# Altium schematic symbol library DDS_PCB.SCHLIB: 53 symbols
Pins are listed as number, name and electrical type; pins without a type are passive.

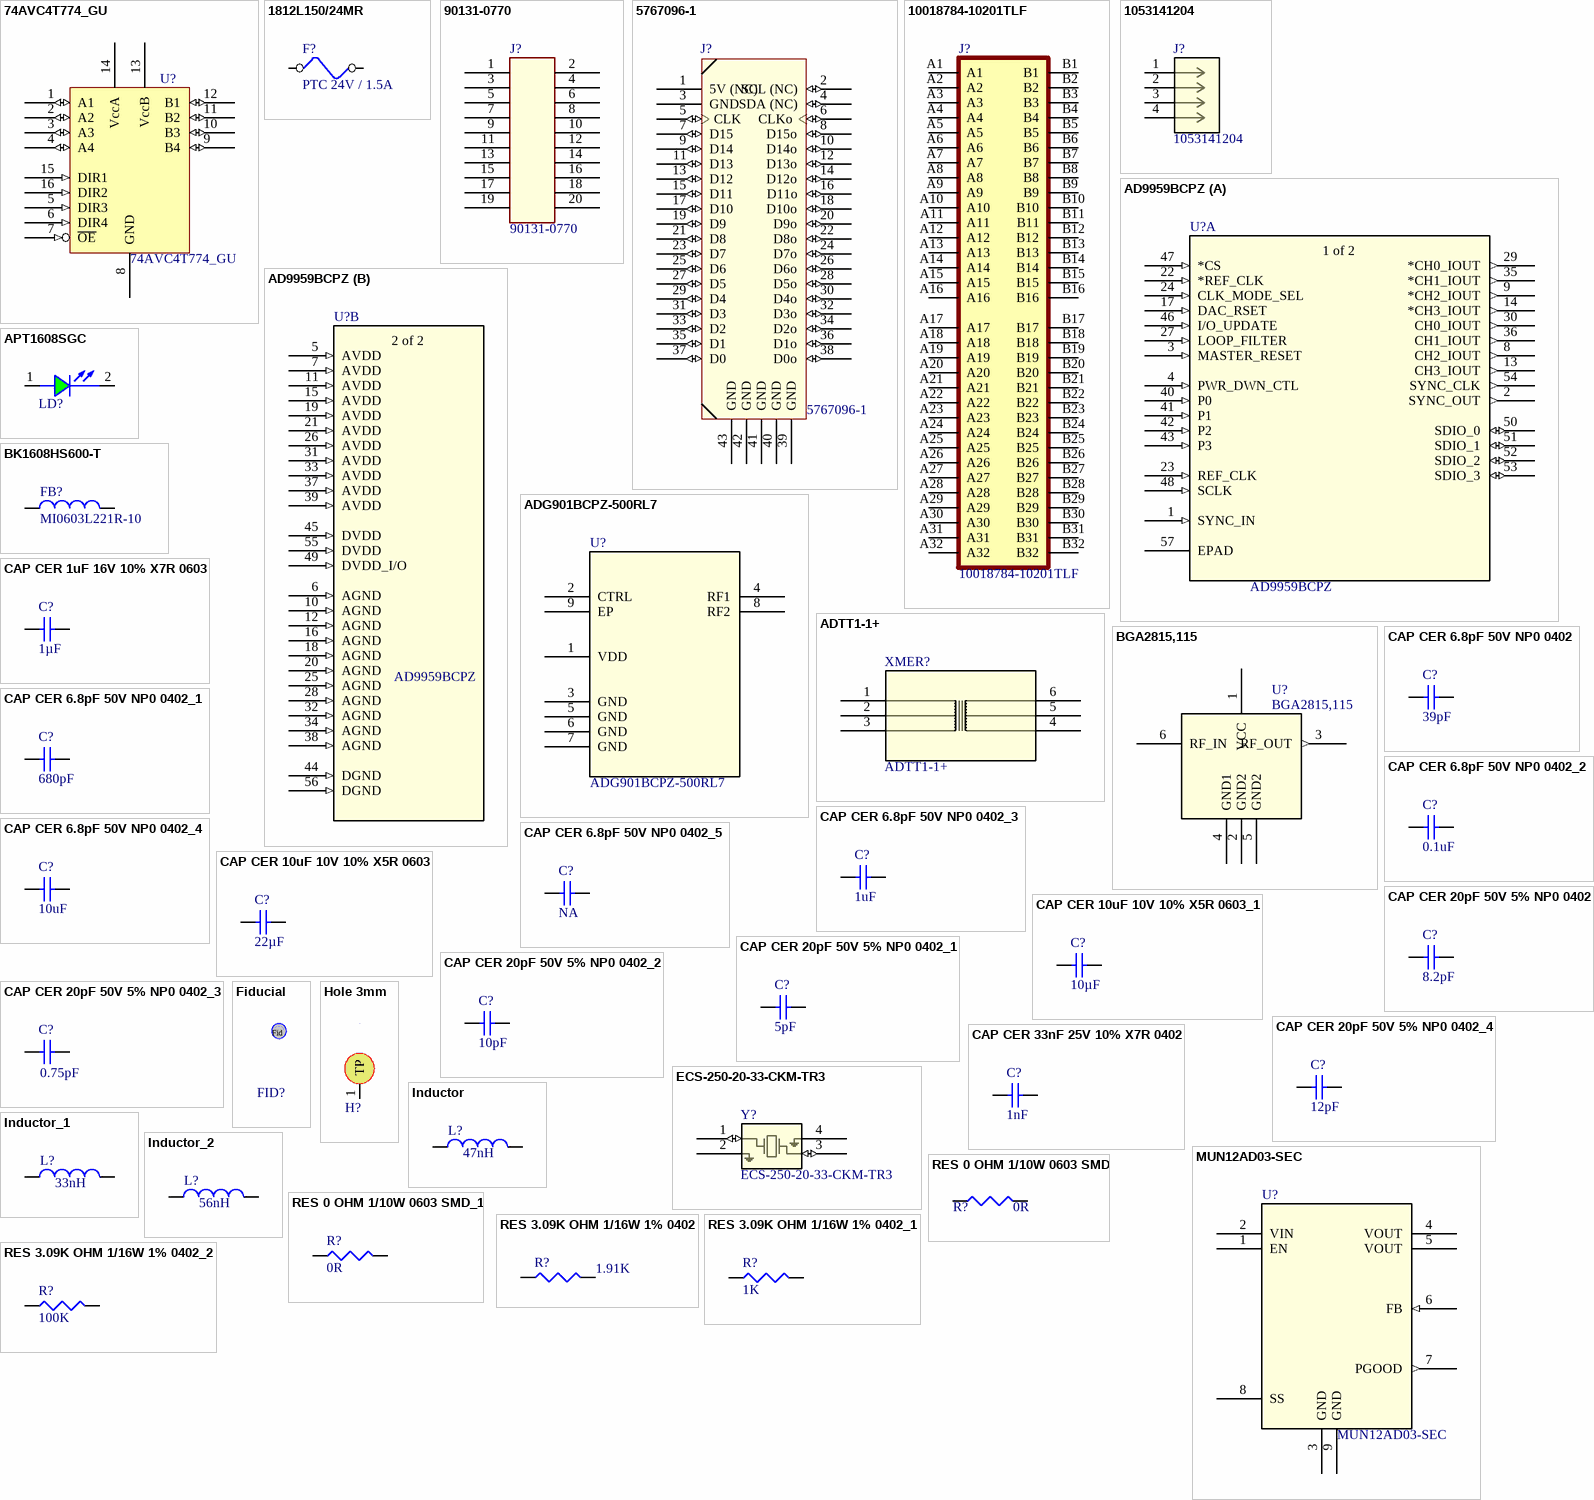
[diagram p0: symbols 74AVC4T774_GU to RES 3.09K OHM 1/16W 1% 0402_2]

## 74AVC4T774_GU
designator U?
footprint NXP_74AVC4T245GU,115
pins: 1 A1 (io), 2 A2 (io), 3 A3 (io), 4 A4 (io), 5 DIR3 (in), 6 DIR4 (in), 7 ~{OE} (in), 8 GND (power), 9 B4 (io), 10 B3 (io), 11 B2 (io), 12 B1 (io), 13 VccB (power), 14 VccA (power), 15 DIR1 (in), 16 DIR2 (in)

## 1812L150/24MR
designator F?, comment PTC 24V / 1.5A
FUSE PTC 24V 1.5A POLYFUSE 1812; Manufacturer: Littelfuse Inc; Manufacturer Part Number: 1812L150/24MR; LANDA P/N: EFS-000011; Package / Case: 1812 (4532 Metric), Concave; RoHS: RoHS Compliant; ComponentLink1URL: http://www.littelfuse.com/data/en/Data_Sheets/Littelfuse_PTC_1812L.pdf; ComponentLink1Description: http://www.littelfuse.com/data/en/Data_Sheets/Littelfuse_PTC_1812L.pdf; Current - Hold (Ih) (Max): 1.5A
footprint 1812_F (PTC RESETTABLE 33V 1.10A 1812L)
pins: 1, 2

## 90131-0770
designator J?
CONN HEADER 20 TH; Manufacturer: Molex Connector Corporation; LANDA P/N: ECN-000005; RoHS: RoHS Compliant; Mounting Type: Through Hole; Contact Type: Male Pin; ComponentLink1URL: http://www.molex.com/pdm_docs/sd/901310770_sd.pdf; ComponentLink1Description: http://www.molex.com/pdm_docs/sd/901310770_sd.pdf; Manufacturer Part Number: 90131-0770
footprint HEADER_10x2
pins: 1, 2, 3, 4, 5, 6, 7, 8, 9, 10, 11, 12, 13, 14, 15, 16, 17, 18, 19, 20

## 5767096-1
designator J?
CONN MICTOR 38POS .025 VERT SMD; Manufacturer: TE Connectivity; LANDA P/N: ECN-000060; RoHS: RoHS Compliant; ComponentLink1URL: http://www.te.com/commerce/DocumentDelivery/DDEController?Action=srchrtrv&DocNm=5767096&DocType=Customer+Drawing&DocLang=English; ComponentLink1Description: http://www.te.com/commerce/DocumentDelivery/DDEController?Action=srchrtrv&DocNm=5767096&DocType=Customer+Drawing&DocLang=English; Manufacturer Part Number: 5767096-1
footprint MICTOR-38_PIN
pins: 1 5V (NC) (power), 2 SCL (NC) (io), 3 GND (power), 4 SDA (NC) (io), 5 CLK (io), 6 CLKo (io), 7 D15 (io), 8 D15o (io), 9 D14 (io), 10 D14o (io), 11 D13 (io), 12 D13o (io), 13 D12 (io), 14 D12o (io), 15 D11 (io), 16 D11o (io), 17 D10 (io), 18 D10o (io), 19 D9 (io), 20 D9o (io), 21 D8 (io), 22 D8o (io), 23 D7 (io), 24 D7o (io), 25 D6 (io), 26 D6o (io), 27 D5 (io), 28 D5o (io), 29 D4 (io), 30 D4o (io), 31 D3 (io), 32 D3o (io), 33 D2 (io), 34 D2o (io), 35 D1 (io), 36 D1o (io), 37 D0 (io), 38 D0o (io), 39 GND (power), 40 GND (power), 41 GND (power), 42 GND (power), 43 GND (power)

## 10018784-10201TLF
designator J?
64 Position Female Connector PCI Expressâ„¢ Gold 0.039 _1.00mm_ Black; MF: Amphenol ICC; Price: None; Value: *; MP: 10018784-10201TLF; Package: None; SnapEDA_Link: https://www.snapeda.com/parts/10018784-10201TLF/Amphenol%20FCI/view-part/2598016/?ref=snap; Availability: Unavailable
footprint CONN_10018784-10201TLF
pins: A1, A2, A3, A4, A5, A6, A7, A8, A9, A10, A11, A12, A13, A14, A15, A16, A17, A18, A19, A20, A21, A22, A23, A24, A25, A26, A27, A28, A29, A30, A31, A32, B1, B2, B3, B4, B5, B6, B7, B8, B9, B10, B11, B12, B13, B14, B15, B16, B17, B18, B19, B20, B21, B22, B23, B24, B25, B26, B27, B28, B29, B30, B31, B32

## 1053141204
designator J?
No Description Available; Mfr_Name: Molex Connector Corporation; Copyright: Copyright (C) 2023 Ultra Librarian. All rights reserved.; Manufacturer_Part_Number: 1053141204; RefDes: RefDes; Type: DEV
footprint CON_1053141204
pins: 1, 2, 3, 4

## AD9959BCPZ
designator U?
No Description Available; Mfr_Name: Analog Devices Inc; Copyright: Copyright (C) 2023 Ultra Librarian. All rights reserved.; Manufacturer_Part_Number: AD9959BCPZ; RefDes: RefDes; Type: DEV
footprint CP_56_1_ADI
part A pins: 1 SYNC_IN (in), 2 SYNC_OUT (out), 3 MASTER_RESET (in), 4 PWR_DWN_CTL (in), 8 CH2_IOUT (out), 9 *CH2_IOUT (out), 13 CH3_IOUT (out), 14 *CH3_IOUT (out), 17 DAC_RSET (in), 22 *REF_CLK (in), 23 REF_CLK (in), 24 CLK_MODE_SEL (in), 27 LOOP_FILTER (in), 29 *CH0_IOUT (out), 30 CH0_IOUT (out), 35 *CH1_IOUT (out), 36 CH1_IOUT (out), 40 P0 (in), 41 P1 (in), 42 P2 (in), 43 P3 (in), 46 I/O_UPDATE (in), 47 *CS (in), 48 SCLK (in), 50 SDIO_0 (io), 51 SDIO_1 (io), 52 SDIO_2 (io), 53 SDIO_3 (io), 54 SYNC_CLK (out), 57 EPAD
part B pins: 5 AVDD (in), 6 AGND (in), 7 AVDD (in), 10 AGND (in), 11 AVDD (in), 12 AGND (in), 15 AVDD (in), 16 AGND (in), 18 AGND (in), 19 AVDD (in), 20 AGND (in), 21 AVDD (in), 25 AGND (in), 26 AVDD (in), 28 AGND (in), 31 AVDD (in), 32 AGND (in), 33 AVDD (in), 34 AGND (in), 37 AVDD (in), 38 AGND (in), 39 AVDD (in), 44 DGND (in), 45 DVDD (in), 49 DVDD_I/O (in), 55 DVDD (in), 56 DGND (in)
part A text: 1 of 2
part B text: 2 of 2

## ADG901BCPZ-500RL7
designator U?
No Description Available; Mfr_Name: Analog Devices Inc; Copyright: Copyright (C) 2023 Ultra Librarian. All rights reserved.; Manufacturer_Part_Number: ADG901BCPZ-500RL7; RefDes: RefDes; Type: DEV
footprint CP_8_2_ADI
pins: 1 VDD (power), 2 CTRL, 3 GND, 4 RF1, 5 GND, 6 GND, 7 GND, 8 RF2, 9 EP

## ADTT1-1+
designator XMER?
No Description Available; Mfr_Name: Mini Circuits; Copyright: Copyright (C) 2023 Ultra Librarian. All rights reserved.; Manufacturer_Part_Number: ADTT1-1+; RefDes: RefDes; Type: DEV
footprint CD542_MNC
pins: 1, 2, 3, 4, 5, 6

## APT1608SGC
designator LD?  (value not drawn)
LED 1.6X0.8MM 568NM GRN CLR SMD; Manufacturer: Kingbright Corp; LANDA P/N: EDI-000006; RoHS: RoHS Compliant; Package / Case: 0603 (1608 Metric); ComponentLink1URL: http://www.us.kingbright.com/images/catalog/SPEC/APT1608SGC.pdf; ComponentLink1Description: http://www.us.kingbright.com/images/catalog/SPEC/APT1608SGC.pdf; Manufacturer Part Number: APT1608SGC
footprint LED_0603_Green (LED 0603, Green)
pins: 1 ANODE, 2 CATHODE

## BGA2815,115
designator U?
No Description Available; Mfr_Name: NXP; Copyright: Copyright (C) 2023 Ultra Librarian. All rights reserved.; Manufacturer_Part_Number: BGA2815,115; RefDes: RefDes; Type: DEV
footprint SOT_2815,115_NXP
pins: 1 VCC (power), 2 GND2, 3 RF_OUT (out), 4 GND1, 5 GND2, 6 RF_IN

## BK1608HS600-T
designator FB?  Manufacturer Part Number: MI0603L221R-10  (hidden comment: BK1608HS600-T)
FERRITE BEAD 220_OHM@100MHz 0603 2A 50mohm_DC; Manufacturer: Taiyo Yuden; LANDA P/N: EIN-000010; RoHS: RoHS Compliant; Package / Case: 0603 (1608 Metric); ComponentLink1URL: http://www.yuden.co.jp/ut/product/category/emisuppression/BK1608HS600-T.pdf; ComponentLink1Description: http://www.yuden.co.jp/ut/product/category/emisuppression/BK1608HS600-T.pdf
footprint FB0603
footprint fb0603
pins: 1, 2

## CAP CER 1uF 16V 10% X7R 0603
designator C?, comment Capacitance: 1µF  (hidden comment: 1uF 16V)
CAP CER 1UF 16V 10% X7R 0603; Manufacturer: TDK Corporation; Manufacturer Part Number: C1608X7R1C105K; LANDA P/N: ECP-000011; RoHS: RoHS Compliant; ComponentLink1URL: http://www.tdk.com/pdf/general_B11.pdf; ComponentLink1Description: http://www.tdk.com/pdf/general_B11.pdf; Package / Case: 0603 (1608 Metric); Voltage - Rated: 16V
footprint C0603
pins: 1, 2

## CAP CER 6.8pF 50V NP0 0402
designator C?, comment Capacitance: 39pF  (hidden comment: 39pF 50V)
CAP CER 39PF 50V NP0 0402; Manufacturer Part Number: C1005C0G1H6R8D; Manufacturer: TDK Corporation; LANDA P/N: ECP-000033; RoHS: RoHS Compliant; Package / Case: 0402 (1005 Metric); ComponentLink1URL: http://www.tdk.com/pdf/general_B11.pdf; ComponentLink1Description: http://www.tdk.com/pdf/general_B11.pdf; Voltage - Rated: 50V
footprint C0402
pins: 1, 2

## CAP CER 6.8pF 50V NP0 0402_1
designator C?, comment Capacitance: 680pF  (hidden comment: 680pF 50V)
CAP CER 680PF 50V NP0 0402; Manufacturer Part Number: C1005C0G1H6R8D; Manufacturer: TDK Corporation; LANDA P/N: ECP-000033; RoHS: RoHS Compliant; Package / Case: 0402 (1005 Metric); ComponentLink1URL: http://www.tdk.com/pdf/general_B11.pdf; ComponentLink1Description: http://www.tdk.com/pdf/general_B11.pdf; Voltage - Rated: 50V
footprint C0402
pins: 1, 2

## CAP CER 6.8pF 50V NP0 0402_2
designator C?, comment Capacitance: 0.1uF  (hidden comment: 0.1uF 50V)
CAP CER 0.1uF 50V NP0 0402; Manufacturer Part Number: C1005C0G1H6R8D; Manufacturer: TDK Corporation; LANDA P/N: ECP-000033; RoHS: RoHS Compliant; Package / Case: 0402 (1005 Metric); ComponentLink1URL: http://www.tdk.com/pdf/general_B11.pdf; ComponentLink1Description: http://www.tdk.com/pdf/general_B11.pdf; Voltage - Rated: 50V
footprint C0402
pins: 1, 2

## CAP CER 6.8pF 50V NP0 0402_3
designator C?, comment Capacitance: 1uF  (hidden comment: 1uF 25V)
CAP CER 1uF 25V X5R 0402; Manufacturer Part Number: C1005C0G1H6R8D; Manufacturer: TDK Corporation; LANDA P/N: ECP-000033; Voltage - Rated: 50V; RoHS: RoHS Compliant; Package / Case: 0402 (1005 Metric); ComponentLink1URL: http://www.tdk.com/pdf/general_B11.pdf; ComponentLink1Description: http://www.tdk.com/pdf/general_B11.pdf
footprint C0402
pins: 1, 2

## CAP CER 6.8pF 50V NP0 0402_4
designator C?, comment Capacitance: 10uF  (hidden comment: 10uF 10V)
CAP CER 10uF 10V X5R 0402; Manufacturer Part Number: C1005C0G1H6R8D; Manufacturer: TDK Corporation; LANDA P/N: ECP-000033; Voltage - Rated: 50V; RoHS: RoHS Compliant; Package / Case: 0402 (1005 Metric); ComponentLink1URL: http://www.tdk.com/pdf/general_B11.pdf; ComponentLink1Description: http://www.tdk.com/pdf/general_B11.pdf
footprint C0402
pins: 1, 2

## CAP CER 6.8pF 50V NP0 0402_5
designator C?, comment NA
CAP CER NA 50V NP0 0402; Manufacturer Part Number: C1005C0G1H6R8D; Manufacturer: TDK Corporation; LANDA P/N: ECP-000033; RoHS: RoHS Compliant; Package / Case: 0402 (1005 Metric); ComponentLink1URL: http://www.tdk.com/pdf/general_B11.pdf; ComponentLink1Description: http://www.tdk.com/pdf/general_B11.pdf; Voltage - Rated: 50V; Capacitance: NA
footprint C0402
pins: 1, 2

## CAP CER 10uF 10V 10% X5R 0603
designator C?, comment Capacitance: 22µF  (hidden comment: 22uF 16V)
CAP CER 22UF 16V 10% X5R 0603; Manufacturer Part Number: C1608X5R1A106K; Manufacturer: TDK Corporation; LANDA P/N: ECP-000008; Voltage - Rated: 10V; RoHS: RoHS Compliant; ComponentLink1URL: http://www.tdk.com/pdf/general_B11.pdf; ComponentLink1Description: http://www.tdk.com/pdf/general_B11.pdf; Package / Case: 0603 (1608 Metric)
footprint C0603
pins: 1, 2

## CAP CER 10uF 10V 10% X5R 0603_1
designator C?, comment Capacitance: 10µF  (hidden comment: 10uF 25V)
CAP CER 10UF 25V 10% X5R 0603; Manufacturer Part Number: C1608X5R1A106K; Manufacturer: TDK Corporation; LANDA P/N: ECP-000008; Voltage - Rated: 10V; RoHS: RoHS Compliant; ComponentLink1URL: http://www.tdk.com/pdf/general_B11.pdf; ComponentLink1Description: http://www.tdk.com/pdf/general_B11.pdf; Package / Case: 0603 (1608 Metric)
footprint C0603
pins: 1, 2

## CAP CER 20pF 50V 5% NP0 0402
designator C?, comment Capacitance: 8.2pF  (hidden comment: 8.2pF 50V)
CAP CER 8.2PF 50V 5% NP0 0402; Manufacturer: TDK Corporation; Manufacturer Part Number: C1005C0G1H200J; LANDA P/N: ECP-000034; Package / Case: 0402 (1005 Metric); RoHS: RoHS Compliant; ComponentLink1URL: http://www.tdk.com/pdf/general_B11.pdf; ComponentLink1Description: http://www.tdk.com/pdf/general_B11.pdf; Voltage - Rated: 50V
footprint C0402
pins: 1, 2

## CAP CER 20pF 50V 5% NP0 0402_1
designator C?, comment Capacitance: 5pF  (hidden comment: 5pF 50V)
CAP CER 5PF 50V 5% NP0 0402; Manufacturer: TDK Corporation; Manufacturer Part Number: C1005C0G1H200J; LANDA P/N: ECP-000034; Package / Case: 0402 (1005 Metric); RoHS: RoHS Compliant; ComponentLink1URL: http://www.tdk.com/pdf/general_B11.pdf; ComponentLink1Description: http://www.tdk.com/pdf/general_B11.pdf; Voltage - Rated: 50V
footprint C0402
pins: 1, 2

## CAP CER 20pF 50V 5% NP0 0402_2
designator C?, comment Capacitance: 10pF  (hidden comment: 10pF 50V)
CAP CER 10PF 50V 5% NP0 0402; Manufacturer: TDK Corporation; Manufacturer Part Number: C1005C0G1H200J; LANDA P/N: ECP-000034; Package / Case: 0402 (1005 Metric); RoHS: RoHS Compliant; ComponentLink1URL: http://www.tdk.com/pdf/general_B11.pdf; ComponentLink1Description: http://www.tdk.com/pdf/general_B11.pdf; Voltage - Rated: 50V
footprint C0402
pins: 1, 2

## CAP CER 20pF 50V 5% NP0 0402_3
designator C?, comment Capacitance: 0.75pF  (hidden comment: 0.75pF 50V)
CAP CER 0.75PF 50V 5% NP0 0402; Manufacturer: TDK Corporation; Manufacturer Part Number: C1005C0G1H200J; LANDA P/N: ECP-000034; Package / Case: 0402 (1005 Metric); RoHS: RoHS Compliant; ComponentLink1URL: http://www.tdk.com/pdf/general_B11.pdf; ComponentLink1Description: http://www.tdk.com/pdf/general_B11.pdf; Voltage - Rated: 50V
footprint C0402
pins: 1, 2

## CAP CER 20pF 50V 5% NP0 0402_4
designator C?, comment Capacitance: 12pF  (hidden comment: 12pF 50V)
CAP CER 12PF 50V 5% NP0 0402; Manufacturer: TDK Corporation; Manufacturer Part Number: C1005C0G1H200J; LANDA P/N: ECP-000034; Package / Case: 0402 (1005 Metric); RoHS: RoHS Compliant; ComponentLink1URL: http://www.tdk.com/pdf/general_B11.pdf; ComponentLink1Description: http://www.tdk.com/pdf/general_B11.pdf; Voltage - Rated: 50V
footprint C0402
pins: 1, 2

## CAP CER 33nF 25V 10% X7R 0402
designator C?, comment Capacitance: 1nF  (hidden comment: 1nF 25V)
CAP CER 1nF 25V 10% X7R 0402; Manufacturer Part Number: C1005X7R1E333K; Manufacturer: TDK Corporation; LANDA P/N: ECP-000045; RoHS: RoHS Compliant; Package / Case: 0402 (1005 Metric); ComponentLink1URL: http://www.tdk.com/pdf/general_B11.pdf; ComponentLink1Description: http://www.tdk.com/pdf/general_B11.pdf; Voltage - Rated: 25V
footprint C0402
pins: 1, 2

## ECS-250-20-33-CKM-TR3
designator Y?
No Description Available; Mfr_Name: ECS International; Type: DEV; Copyright: Copyright (C) 2023 Ultra Librarian. All rights reserved.; Manufacturer_Part_Number: ECS-250-20-33-CKM-TR3; RefDes: RefDes
footprint SMD4_ECX-32_3p2x2p5_ECS
pins: 1 (io), 2, 3 (io), 4

## Fiducial
designator FID?  (value not drawn)
Assembly: NA
footprint Fiducial (Footprint not found)
text: Fid

## Hole 3mm
designator H?  (value not drawn)
footprint hole 3mm
pins: 1 TP

## Inductor
designator L?  value 47nH  (hidden comment: Inductor)
Code_IEC: 1005; Published: 8-Jun-2000; LatestRevisionDate: 29-May-2009; LatestRevisionNote: IPC-7351 Footprint Added.; PackageReference: 0402-A; Publisher: Altium Limited; PackageDescription: Chip Inductor; Code_JEITA: 0402
footprint 0402-A (Chip Inductor, Body 1.0x0.5mm, IPC High Density)
footprint INDC1608L (Chip Inductor, Body 1.6x0.8mm, IPC High Density)
footprint 2029 (Chip Inductor, Body 2.0x1.2mm, IPC High Density)
footprint 0603 (Chip Inductor, Body 0.6x0.3mm, IPC High Density)
footprint INDC3216 (Chip Inductor, Body 3.2x1.6mm, IPC High Density)
footprint INDC4532 (Chip Inductor, Body 4.5x3.2mm, IPC High Density)
simulation model INDUCTOR (Inductor)
signal-integrity model Inductor
pins: 1, 2

## Inductor_1
designator L?, comment value 33nH  (hidden comment: Inductor)
Code_IEC: 1005; Published: 8-Jun-2000; LatestRevisionDate: 29-May-2009; LatestRevisionNote: IPC-7351 Footprint Added.; PackageReference: 0402-A; Publisher: Altium Limited; PackageDescription: Chip Inductor; Code_JEITA: 0402
footprint 0402-A (Chip Inductor, Body 1.0x0.5mm, IPC High Density)
footprint INDC1608L (Chip Inductor, Body 1.6x0.8mm, IPC High Density)
footprint 2029 (Chip Inductor, Body 2.0x1.2mm, IPC High Density)
footprint 0603 (Chip Inductor, Body 0.6x0.3mm, IPC High Density)
footprint INDC3216 (Chip Inductor, Body 3.2x1.6mm, IPC High Density)
footprint INDC4532 (Chip Inductor, Body 4.5x3.2mm, IPC High Density)
simulation model INDUCTOR (Inductor)
signal-integrity model Inductor
pins: 1, 2

## Inductor_2
designator L?, comment value 56nH  (hidden comment: Inductor)
Code_IEC: 1005; Published: 8-Jun-2000; LatestRevisionDate: 29-May-2009; LatestRevisionNote: IPC-7351 Footprint Added.; PackageReference: 0402-A; Publisher: Altium Limited; PackageDescription: Chip Inductor; Code_JEITA: 0402
footprint 0402-A (Chip Inductor, Body 1.0x0.5mm, IPC High Density)
footprint INDC1608L (Chip Inductor, Body 1.6x0.8mm, IPC High Density)
footprint 2029 (Chip Inductor, Body 2.0x1.2mm, IPC High Density)
footprint 0603 (Chip Inductor, Body 0.6x0.3mm, IPC High Density)
footprint INDC3216 (Chip Inductor, Body 3.2x1.6mm, IPC High Density)
footprint INDC4532 (Chip Inductor, Body 4.5x3.2mm, IPC High Density)
simulation model INDUCTOR (Inductor)
signal-integrity model Inductor
pins: 1, 2

## MUN12AD03-SEC
designator U?
No Description Available; Mfr_Name: Delta; Type: DEV; Copyright: Copyright (C) 2023 Ultra Librarian. All rights reserved.; Manufacturer_Part_Number: MUN12AD03-SEC; RefDes: RefDes
footprint SO8_MUN12AD_DEA
pins: 1 EN, 2 VIN (power), 3 GND, 4 VOUT (power), 5 VOUT (power), 6 FB (in), 7 PGOOD (out), 8 SS, 9 GND

## RES 0 OHM 1/10W 0603 SMD
designator R?, comment 0R
RES 0 OHM 1/10W 0603 SMD; Manufacturer: Yageo; Manufacturer Part Number: RC0603JR-070RL; Power (Watts): 0.1W, 1/10W; Package / Case: 0603 (1608 Metric); Supplier Device Package: 0603; RoHS: RoHS Compliant; ComponentLink1URL: http://www.yageo.com/documents/recent/PYu-RC0603_51_RoHS_L_4.pdf; ComponentLink1Description: http://www.yageo.com/documents/recent/PYu-RC0603_51_RoHS_L_4.pdf; Value: 0R
footprint R0603
pins: 1, 2

## RES 0 OHM 1/10W 0603 SMD_1
designator R?, comment 0R
RES 0 OHM 1/10W 0603 SMD; Manufacturer: Yageo; Manufacturer Part Number: RC0603JR-070RL; Power (Watts): 0.1W, 1/10W; LANDA P/N: ERS-000001; Assembly: N.C; Package / Case: 0603 (1608 Metric); Supplier Device Package: 0603; RoHS: RoHS Compliant; ComponentLink1URL: http://www.yageo.com/documents/recent/PYu-RC0603_51_RoHS_L_4.pdf; ComponentLink1Description: http://www.yageo.com/documents/recent/PYu-RC0603_51_RoHS_L_4.pdf
footprint R0603
pins: 1, 2

## RES 3.09K OHM 1/16W 1% 0402
designator R?, comment 1.91K
RES 1.91K OHM 1/16W 1% 0402; Manufacturer Part Number: RMCF0402FT3K09; Manufacturer: Stackpole Electronics Inc; Power (Watts): 0.063W, 1/16W; LANDA P/N: ERS-000063; Supplier Device Package: 0402; Package / Case: 0402 (1005 Metric); RoHS: RoHS Compliant; ComponentLink1URL: http://www.seielect.com/Catalog/SEI-RMCF_RMCP.pdf; ComponentLink1Description: http://www.seielect.com/Catalog/SEI-RMCF_RMCP.pdf
footprint R0402
pins: 1, 2

## RES 3.09K OHM 1/16W 1% 0402_1
designator R?, comment 1K
RES 1K OHM 1/16W 1% 0402; Manufacturer Part Number: RMCF0402FT3K09; Manufacturer: Stackpole Electronics Inc; Power (Watts): 0.063W, 1/16W; LANDA P/N: ERS-000063; Supplier Device Package: 0402; Package / Case: 0402 (1005 Metric); RoHS: RoHS Compliant; ComponentLink1URL: http://www.seielect.com/Catalog/SEI-RMCF_RMCP.pdf; ComponentLink1Description: http://www.seielect.com/Catalog/SEI-RMCF_RMCP.pdf
footprint R0402
pins: 1, 2

## RES 3.09K OHM 1/16W 1% 0402_2
designator R?, comment 100K
RES 100K OHM 1/16W 1% 0402; Manufacturer Part Number: RMCF0402FT3K09; Manufacturer: Stackpole Electronics Inc; Power (Watts): 0.063W, 1/16W; LANDA P/N: ERS-000063; Supplier Device Package: 0402; Package / Case: 0402 (1005 Metric); RoHS: RoHS Compliant; ComponentLink1URL: http://www.seielect.com/Catalog/SEI-RMCF_RMCP.pdf; ComponentLink1Description: http://www.seielect.com/Catalog/SEI-RMCF_RMCP.pdf
footprint R0402
pins: 1, 2

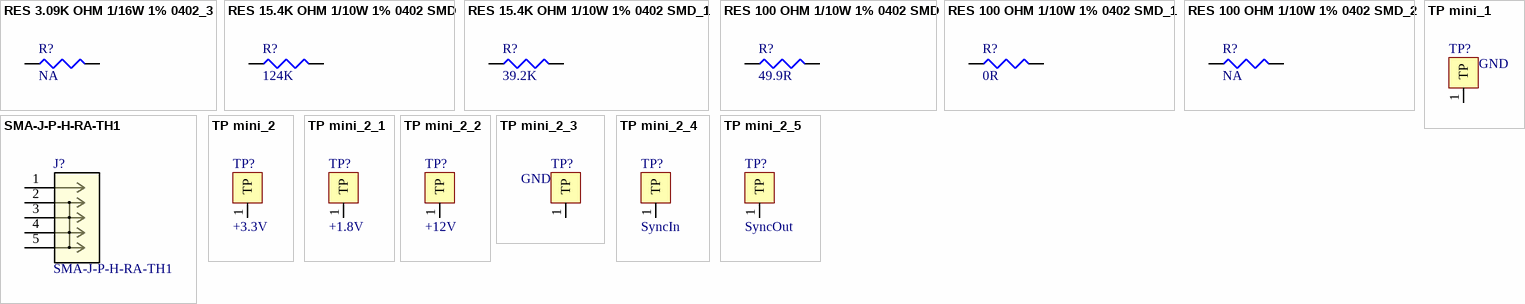
[diagram p1: symbols RES 3.09K OHM 1/16W 1% 0402_3 to TP mini_2_5]

## RES 3.09K OHM 1/16W 1% 0402_3
designator R?, comment NA
RES 3.09K OHM 1/16W 1% 0402; Manufacturer Part Number: RMCF0402FT3K09; Manufacturer: Stackpole Electronics Inc; Power (Watts): 0.063W, 1/16W; LANDA P/N: ERS-000063; Supplier Device Package: 0402; Package / Case: 0402 (1005 Metric); RoHS: RoHS Compliant; ComponentLink1URL: http://www.seielect.com/Catalog/SEI-RMCF_RMCP.pdf; ComponentLink1Description: http://www.seielect.com/Catalog/SEI-RMCF_RMCP.pdf
footprint R0402
pins: 1, 2

## RES 15.4K OHM 1/10W 1% 0402 SMD
designator R?, comment 124K
RES 124K OHM 1/10W 1% 0402 SMD; Manufacturer: Panasonic Electronic Components; Manufacturer Part Number: ERJ-2RKF1542X; Power (Watts): 0.1W, 1/10W; LANDA P/N: ERS-000060; Package / Case: 0402 (1005 Metric); Supplier Device Package: 0402; RoHS: RoHS Compliant; ComponentLink1URL: http://industrial.panasonic.com/www-cgi/jvcr13pz.cgi?E+PZ+3+AOA0002+ERJ2RKF1542X+7+WW; ComponentLink1Description: http://industrial.panasonic.com/www-cgi/jvcr13pz.cgi?E+PZ+3+AOA0002+ERJ2RKF1542X+7+WW
footprint R0402
pins: 1, 2

## RES 15.4K OHM 1/10W 1% 0402 SMD_1
designator R?, comment 39.2K
RES 39.2K OHM 1/10W 1% 0402 SMD; Manufacturer: Panasonic Electronic Components; Manufacturer Part Number: ERJ-2RKF1542X; Power (Watts): 0.1W, 1/10W; LANDA P/N: ERS-000060; Package / Case: 0402 (1005 Metric); Supplier Device Package: 0402; RoHS: RoHS Compliant; ComponentLink1URL: http://industrial.panasonic.com/www-cgi/jvcr13pz.cgi?E+PZ+3+AOA0002+ERJ2RKF1542X+7+WW; ComponentLink1Description: http://industrial.panasonic.com/www-cgi/jvcr13pz.cgi?E+PZ+3+AOA0002+ERJ2RKF1542X+7+WW
footprint R0402
pins: 1, 2

## RES 100 OHM 1/10W 1% 0402 SMD
designator R?, comment 49.9R
RES 49.9 OHM 1/10W 1% 0402 SMD; Manufacturer Part Number: ERJ-2RKF1000X; Manufacturer: Panasonic Electronic Components; LANDA P/N: ERS-000079; Assembly: N.C; Package / Case: 0402 (1005 Metric); RoHS: RoHS Compliant; ComponentLink1URL: http://industrial.panasonic.com/www-cgi/jvcr13pz.cgi?E+PZ+3+AOA0002+ERJ2RKF1000X+7+WW; ComponentLink1Description: http://industrial.panasonic.com/www-cgi/jvcr13pz.cgi?E+PZ+3+AOA0002+ERJ2RKF1000X+7+WW; Supplier Device Package: 0402
footprint R0402
pins: 1, 2

## RES 100 OHM 1/10W 1% 0402 SMD_1
designator R?, comment 0R
RES 0 OHM 1/10W 1% 0402 SMD; Manufacturer Part Number: ERJ-2RKF1000X; Manufacturer: Panasonic Electronic Components; LANDA P/N: ERS-000079; Assembly: N.C; Package / Case: 0402 (1005 Metric); RoHS: RoHS Compliant; ComponentLink1URL: http://industrial.panasonic.com/www-cgi/jvcr13pz.cgi?E+PZ+3+AOA0002+ERJ2RKF1000X+7+WW; ComponentLink1Description: http://industrial.panasonic.com/www-cgi/jvcr13pz.cgi?E+PZ+3+AOA0002+ERJ2RKF1000X+7+WW; Supplier Device Package: 0402
footprint R0402
pins: 1, 2

## RES 100 OHM 1/10W 1% 0402 SMD_2
designator R?, comment NA
RES 0 OHM 1/10W 1% 0402 SMD; Manufacturer Part Number: ERJ-2RKF1000X; Manufacturer: Panasonic Electronic Components; LANDA P/N: ERS-000079; Assembly: N.C; Package / Case: 0402 (1005 Metric); RoHS: RoHS Compliant; ComponentLink1URL: http://industrial.panasonic.com/www-cgi/jvcr13pz.cgi?E+PZ+3+AOA0002+ERJ2RKF1000X+7+WW; ComponentLink1Description: http://industrial.panasonic.com/www-cgi/jvcr13pz.cgi?E+PZ+3+AOA0002+ERJ2RKF1000X+7+WW; Supplier Device Package: 0402
footprint R0402
pins: 1, 2

## SMA-J-P-H-RA-TH1
designator J?
No Description Available; Mfr_Name: Samtec Inc; Copyright: Copyright (C) 2023 Ultra Librarian. All rights reserved.; Manufacturer_Part_Number: SMA-J-P-H-RA-TH1; RefDes: RefDes; Type: DEV
footprint CONN_SMA-J-P-H-RA-TH1_SAI
pins: 1, 2, 3, 4, 5

## TP mini_1
designator TP?, comment GND
TP PC MINIATURE SMT; Manufacturer: Keystone Electronics; Manufacturer Part Number: 5015; Assembly: N.A; LANDA P/N: ECN-000032; RoHS: RoHS Compliant
footprint TP_2x1.8
footprint TP-5015
footprint TP_2X3.6
pins: 1 TP

## TP mini_2
designator TP?, comment +3.3V
TP PC MINIATURE SMT; Manufacturer: Keystone Electronics; Manufacturer Part Number: 5015; Assembly: N.A; LANDA P/N: ECN-000032; RoHS: RoHS Compliant
footprint TP_2x1.8
footprint TP-5015
footprint TP_2X3.6
pins: 1 TP

## TP mini_2_1
designator TP?, comment +1.8V
TP PC MINIATURE SMT; Manufacturer: Keystone Electronics; Manufacturer Part Number: 5015; Assembly: N.A; LANDA P/N: ECN-000032; RoHS: RoHS Compliant
footprint TP_2x1.8
footprint TP-5015
footprint TP_2X3.6
pins: 1 TP

## TP mini_2_2
designator TP?, comment +12V
TP PC MINIATURE SMT; Manufacturer: Keystone Electronics; Manufacturer Part Number: 5015; Assembly: N.A; LANDA P/N: ECN-000032; RoHS: RoHS Compliant
footprint TP_2x1.8
footprint TP-5015
footprint TP_2X3.6
pins: 1 TP

## TP mini_2_3
designator TP?, comment GND
TP PC MINIATURE SMT; Manufacturer: Keystone Electronics; Manufacturer Part Number: 5015; Assembly: N.A; LANDA P/N: ECN-000032; RoHS: RoHS Compliant
footprint TP_2x1.8
footprint TP-5015
footprint TP_2X3.6
pins: 1 TP

## TP mini_2_4
designator TP?, comment SyncIn
TP PC MINIATURE SMT; Manufacturer: Keystone Electronics; Manufacturer Part Number: 5015; Assembly: N.A; LANDA P/N: ECN-000032; RoHS: RoHS Compliant
footprint TP_2x1.8
footprint TP-5015
footprint TP_2X3.6
pins: 1 TP

## TP mini_2_5
designator TP?, comment SyncOut
TP PC MINIATURE SMT; Manufacturer: Keystone Electronics; Manufacturer Part Number: 5015; Assembly: N.A; LANDA P/N: ECN-000032; RoHS: RoHS Compliant
footprint TP_2x1.8
footprint TP-5015
footprint TP_2X3.6
pins: 1 TP